# Altium schematic symbol library SamacSys.SchLib: 17 symbols
Pins are listed as number, name and electrical type; pins without a type are passive.

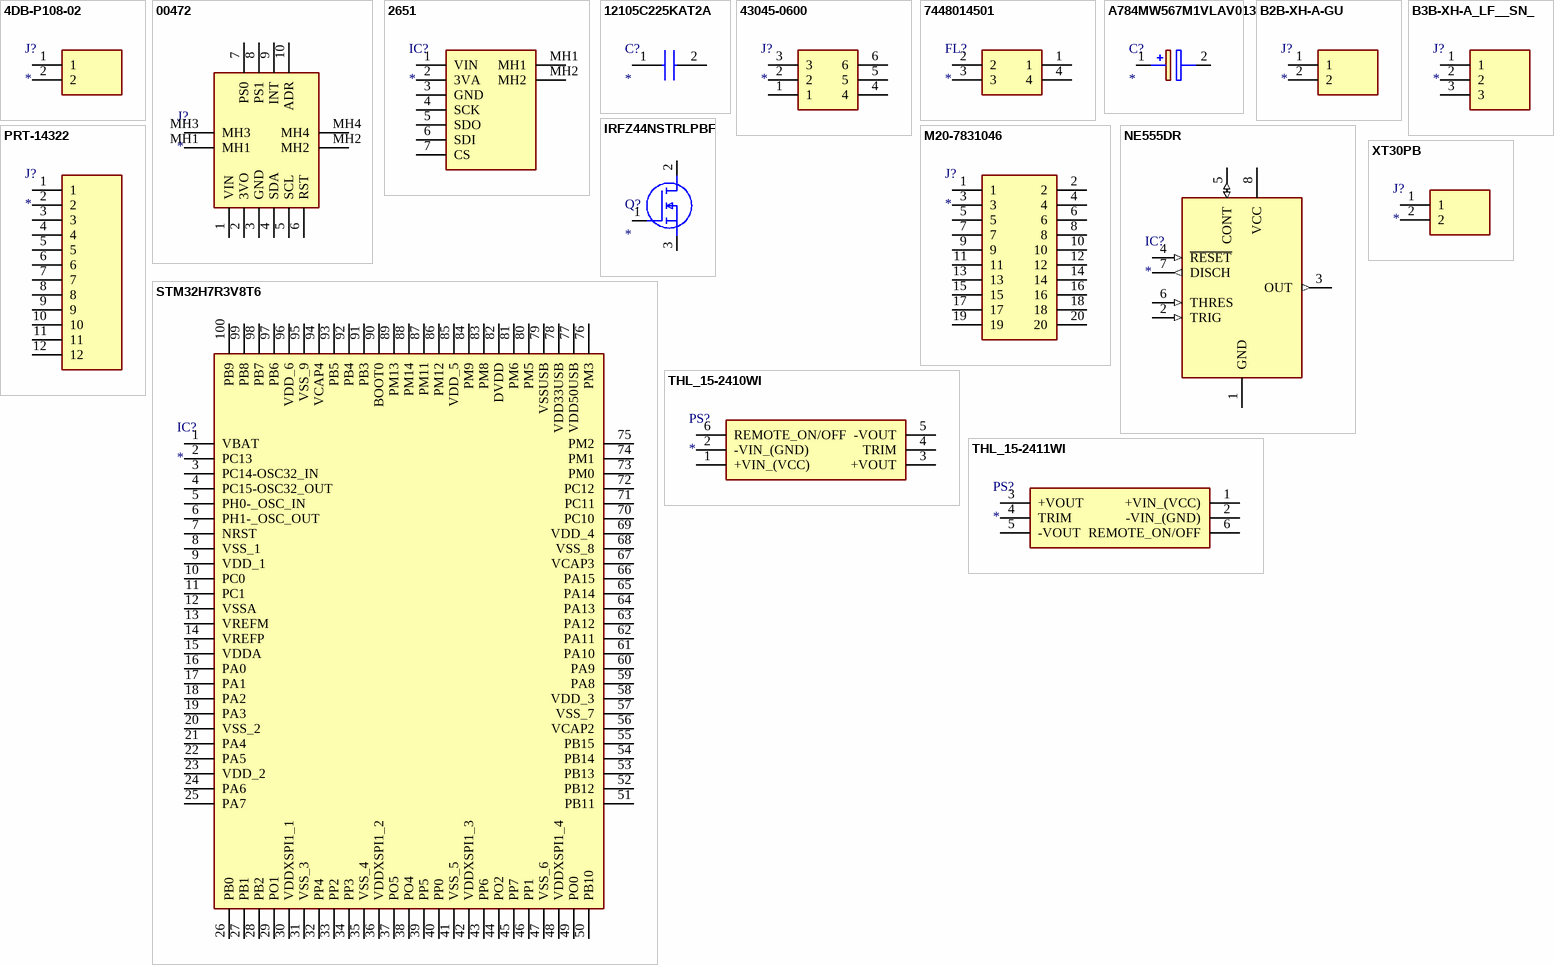
[diagram p0: symbols 4DB-P108-02 to XT30PB]

## 4DB-P108-02
designator J?
Connector; Manufacturer_Name: TE Connectivity; Manufacturer_Part_Number: 4DB-P108-02; Datasheet Link: https://www.te.com/commerce/DocumentDelivery/DDEController?Action=srchrtrv&DocNm=1-1773458-2_BARRIER_STRIPS_QRG&DocType=Data%20Sheet&DocLang=English&PartCntxt=2-1437667-4&DocFormat=pdf; Height: 13.462mm; Mouser Part Number: 571-214376674; Mouser Price/Stock: https://www.mouser.co.uk/ProductDetail/TE-Connectivity/4DB-P108-02?qs=JZD3Rbs9XzmzUbn854Piuw%3D%3D; Arrow Part Number: 4DB-P108-02; Arrow Price/Stock: https://www.arrow.com/en/products/4db-p108-02/te-connectivity?utm_currency=USD&region=nac
footprint 4DBP10802
pins: 1, 2

## 00472
designator J?
Connector; Manufacturer_Name: Adafruit; Manufacturer_Part_Number: 00472; Datasheet Link: https://learn.adafruit.com/downloads/pdf/adafruit-bno055-absolute-orientation-sensor.pdf; Height: 2mm
footprint 00472
pins: 1 VIN, 2 3VO, 3 GND, 4 SDA, 5 SCL, 6 RST, 7 PS0, 8 PS1, 9 INT, 10 ADR, MH1, MH2, MH3, MH4

## 2651
designator IC?
Integrated Circuit; Manufacturer_Name: Adafruit; Manufacturer_Part_Number: 2651; Datasheet Link: https://learn.adafruit.com/downloads/pdf/adafruit-bmp280-barometric-pressure-plus-temperature-sensor-breakout.pdf; Height: 3mm; Mouser Part Number: 485-2651; Mouser Price/Stock: https://www.mouser.co.uk/ProductDetail/Adafruit/2651?qs=GP1oqPAcsMG0HimHwVa7aA%3D%3D; Arrow Part Number: 2651; Arrow Price/Stock: https://www.arrow.com/en/products/2651/adafruit-industries?region=nac
footprint 2651
pins: 1 VIN, 2 3VA, 3 GND, 4 SCK, 5 SDO, 6 SDI, 7 CS, MH1, MH2

## 12105C225KAT2A
designator C?
Capacitor; Manufacturer_Name: Kyocera AVX; Manufacturer_Part_Number: 12105C225KAT2A; Datasheet Link: https://componentsearchengine.com/Datasheets/1/12105C225KAT2A.pdf; Height: 2.79mm; Mouser Part Number: 581-12105C225KAT2A; Mouser Price/Stock: https://www.mouser.co.uk/ProductDetail/KYOCERA-AVX/12105C225KAT2A?qs=jGANiKWBgciNbEvbZrzK3Q%3D%3D; Arrow Part Number: 12105C225KAT2A; Arrow Price/Stock: https://www.arrow.com/en/products/12105c225kat2a/avx?region=nac
footprint CAPC3325X279N
pins: 1, 2

## 43045-0600
designator J?
Connector; Manufacturer_Name: Molex; Manufacturer_Part_Number: 43045-0600; Datasheet Link: https://www.molex.com/pdm_docs/sd/430450200_sd.pdf; Height: 9.9mm; Mouser Part Number: 538-43045-0600; Mouser Price/Stock: https://www.mouser.co.uk/ProductDetail/Molex/43045-0600?qs=mrPiglD9aYJ8CzJ%2FE2PNbw%3D%3D; Arrow Part Number: 43045-0600; Arrow Price/Stock: https://www.arrow.com/en/products/43045-0600/molex?region=nac
footprint 43045-06(00,01,02,10)
pins: 1, 2, 3, 4, 5, 6

## 7448014501
designator FL?
Filter; Manufacturer_Name: Wurth Elektronik; Manufacturer_Part_Number: 7448014501; Datasheet Link: https://www.we-online.com/components/products/download/3D_IndCMBNC_XS_7448014501+%28rev1%29.pdf; Height: 16mm; Mouser Part Number: 710-7448014501; Mouser Price/Stock: https://www.mouser.co.uk/ProductDetail/Wurth-Elektronik/7448014501?qs=Zt3UNFD9mQgLPiCM1MKQaA%3D%3D
footprint 7448014501
pins: 1, 2, 3, 4

## A784MW567M1VLAV013
designator C?
Capacitor Polarised; Manufacturer_Name: Yageo Group; Manufacturer_Part_Number: A784MW567M1VLAV013; Datasheet Link: https://search.kemet.com/download/datasheet/A784MW567M1VLAV013; Height: 17.5mm
footprint A784MW567M1VLAV013
pins: 1 +, 2 -

## B2B-XH-A-GU
designator J?
Connector; Manufacturer_Name: JST (JAPAN SOLDERLESS TERMINALS); Manufacturer_Part_Number: B2B-XH-A-GU; Datasheet Link: http://www.jst-mfg.com/product/pdf/eng/eXH.pdf; Height: 7mm; Mouser Part Number: N/A; Mouser Price/Stock: https://www.mouser.co.uk/ProductDetail/JST-Commercial/B2B-XH-A-GU?qs=IKkN%2F947nfBVsqimfO%252BieQ%3D%3D; Arrow Part Number: B2B-XH-A-GU; Arrow Price/Stock: https://www.arrow.com/en/products/b2b-xh-a-gu/jst-manufacturing?utm_currency=USD&region=europe
footprint B2BXHAGU
pins: 1, 2

## B3B-XH-A_LF__SN_
designator J?
Connector; Manufacturer_Name: JST (JAPAN SOLDERLESS TERMINALS); Manufacturer_Part_Number: B3B-XH-A(LF)(SN); Datasheet Link: https://datasheet.lcsc.com/szlcsc/1812131720_JST-Sales-America-B3B-XH-A-LF-SN_C144394.pdf; Height: 7mm; Mouser Part Number: 306-B3BXHALFSNP; Mouser Price/Stock: https://www.mouser.co.uk/ProductDetail/JST-Commercial/B3B-XH-ALFSN?qs=cdbOS8ANM9BVkoboCCIEMQ%3D%3D; Arrow Part Number: B3B-XH-A(LF)(SN); Arrow Price/Stock: https://www.arrow.com/en/products/b3b-xh-a-lf-sn/jst-manufacturing?utm_currency=USD&region=europe
footprint B3BXHALFSN
pins: 1, 2, 3

## IRFZ44NSTRLPBF
designator Q?
MOSFET (N-Channel); Manufacturer_Name: Infineon; Manufacturer_Part_Number: IRFZ44NSTRLPBF; Datasheet Link: https://www.mouser.co.uk/datasheet/2/196/Infineon_IRFZ44NS_DataSheet_v01_01_EN-3363127.pdf; Mouser Part Number: 942-IRFZ44NSTRLPBF; Mouser Price/Stock: https://www.mouser.co.uk/ProductDetail/Infineon-Technologies/IRFZ44NSTRLPBF?qs=9%252BKlkBgLFf2g3fcs7l0nig%3D%3D; Arrow Part Number: IRFZ44NSTRLPBF; Arrow Price/Stock: https://www.arrow.com/en/products/irfz44nstrlpbf/infineon-technologies-ag.html?utm_currency=USD&region=europe
footprint IRFZ44NSTRLPBF
pins: 1 G, 2 D, 3 S

## M20-7831046
designator J?
Connector; Manufacturer_Name: Harwin; Manufacturer_Part_Number: M20-7831046; Datasheet Link: https://content.harwin.com/m/9326bc87f68b4cd2/original/DRG-00386-Technical-Drawing-Datasheet-M20-783-pdf.pdf; Height: 8.5mm; Mouser Part Number: 855-M20-7831046; Mouser Price/Stock: https://www.mouser.co.uk/ProductDetail/Harwin/M20-7831046?qs=vF78I%252BjhbY%252BXDATeu1%252BhjQ%3D%3D
footprint RHDR20W70P254_2X10_2580X504X850P
pins: 1, 2, 3, 4, 5, 6, 7, 8, 9, 10, 11, 12, 13, 14, 15, 16, 17, 18, 19, 20

## NE555DR
designator IC?
Integrated Circuit; Manufacturer_Name: Texas Instruments; Manufacturer_Part_Number: NE555DR; Datasheet Link: http://www.ti.com/lit/ds/symlink/ne555.pdf; Height: 1.75mm; Mouser Part Number: 595-NE555DR; Mouser Price/Stock: https://www.mouser.com/Search/Refine.aspx?Keyword=595-NE555DR; RS Part Number: 1218414; RS Price/Stock: http://uk.rs-online.com/web/p/products/1218414
footprint SOIC127P600X175-8N
pins: 1 GND (power), 2 TRIG (in), 3 OUT (out), 4 ~{RESET} (in), 5 CONT (io), 6 THRES (in), 7 DISCH (out), 8 VCC (power)

## PRT-14322
designator J?
Connector; Manufacturer_Name: SparkFun; Manufacturer_Part_Number: PRT-14322; Datasheet Link: https://cdn.sparkfun.com/datasheets/Prototyping/SP-140520-XX-001.pdf; Height: 8.65mm; Mouser Part Number: 474-PRT-14322; Mouser Price/Stock: https://www.mouser.co.uk/ProductDetail/SparkFun/PRT-14322?qs=YCa%2FAAYMW006l9RrtPHkxQ%3D%3D; Arrow Part Number: PRT-14322; Arrow Price/Stock: https://www.arrow.com/en/products/prt-14322/sparkfun-electronics
footprint RHDR12W87P0X254_1X12_3103X250X865P
pins: 1, 2, 3, 4, 5, 6, 7, 8, 9, 10, 11, 12

## STM32H7R3V8T6
designator IC?
Integrated Circuit; Manufacturer_Name: STMicroelectronics; Manufacturer_Part_Number: STM32H7R3V8T6; Description: Arm Cortex-M7 32-bit 600 MHz MCU; Datasheet Link: https://www.st.com/resource/en/datasheet/stm32h7r3a8.pdf; Height: 1.6mm; Mouser Part Number: 511-STM32H7R3V8T6; Mouser Price/Stock: https://www.mouser.co.uk/ProductDetail/STMicroelectronics/STM32H7R3V8T6?qs=ZcfC38r4PotoHwuuQ2PxIA%3D%3D; Arrow Part Number: STM32H7R3V8T6; Arrow Price/Stock: https://www.arrow.com/en/products/stm32h7r3v8t6/stmicroelectronics?utm_currency=USD&region=nac
footprint QFP50P1600X1600X160-100N
pins: 1 VBAT, 2 PC13, 3 PC14-OSC32_IN, 4 PC15-OSC32_OUT, 5 PH0-_OSC_IN, 6 PH1-_OSC_OUT, 7 NRST, 8 VSS_1, 9 VDD_1, 10 PC0, 11 PC1, 12 VSSA, 13 VREFM, 14 VREFP, 15 VDDA, 16 PA0, 17 PA1, 18 PA2, 19 PA3, 20 VSS_2, 21 PA4, 22 PA5, 23 VDD_2, 24 PA6, 25 PA7, 26 PB0, 27 PB1, 28 PB2, 29 PO1, 30 VDDXSPI1_1, 31 VSS_3, 32 PP4, 33 PP2, 34 PP3, 35 VSS_4, 36 VDDXSPI1_2, 37 PO5, 38 PO4, 39 PP5, 40 PP0, 41 VSS_5, 42 VDDXSPI1_3, 43 PP6, 44 PO2, 45 PP7, 46 PP1, 47 VSS_6, 48 VDDXSPI1_4, 49 PO0, 50 PB10, 51 PB11, 52 PB12, 53 PB13, 54 PB14, 55 PB15, 56 VCAP2, 57 VSS_7, 58 VDD_3, 59 PA8, 60 PA9, 61 PA10, 62 PA11, 63 PA12, 64 PA13, 65 PA14, 66 PA15, 67 VCAP3, 68 VSS_8, 69 VDD_4, 70 PC10, 71 PC11, 72 PC12, 73 PM0, 74 PM1, 75 PM2, 76 PM3, 77 VDD50USB, 78 VDD33USB, 79 VSSUSB, 80 PM5, 81 PM6, 82 DVDD, 83 PM8, 84 PM9, 85 VDD_5, 86 PM12, 87 PM11, 88 PM14, 89 PM13, 90 BOOT0, 91 PB3, 92 PB4, 93 PB5, 94 VCAP4, 95 VSS_9, 96 VDD_6, 97 PB6, 98 PB7, 99 PB8, 100 PB9

## THL_15-2410WI
designator PS?
Power Supply; Manufacturer_Name: Traco Power; Manufacturer_Part_Number: THL 15-2410WI; Datasheet Link: https://tracopower.com/thl15wi-datasheet/; Height: 10.66mm; Mouser Part Number: 495-THL15-2410WI; Mouser Price/Stock: https://www.mouser.co.uk/ProductDetail/TRACO-Power/THL-15-2410WI?qs=vLWxofP3U2zUD2qGlvCiuw%3D%3D
footprint THL152410WI
pins: 1 +VIN_(VCC), 2 -VIN_(GND), 3 +VOUT, 4 TRIM, 5 -VOUT, 6 REMOTE_ON/OFF

## THL_15-2411WI
designator PS?
Power Supply; Manufacturer_Name: Traco Power; Manufacturer_Part_Number: THL 15-2411WI; Datasheet Link: https://tracopower.com/thl15wi-datasheet/; Mouser Part Number: 495-THL15-2411WI; Mouser Price/Stock: https://www.mouser.co.uk/ProductDetail/TRACO-Power/THL-15-2411WI?qs=vLWxofP3U2zTxW0y6%2FAPOg%3D%3D
footprint THL152411WI
pins: 1 +VIN_(VCC), 2 -VIN_(GND), 3 +VOUT, 4 TRIM, 5 -VOUT, 6 REMOTE_ON/OFF

## XT30PB
designator J?
Connector; Manufacturer_Name: Amass; Manufacturer_Part_Number: XT30PB; Datasheet Link: https://www.tme.eu/Document/4acc913878197f8c2e30d4b8cdc47230/XT30UPB%20SPEC.pdf; Height: 10.7mm
footprint XT30PB
pins: 1, 2